# Altium integrated library CM5_library.IntLib: 236 symbols (part 1 of 5)
Pins are listed as number, name and electrical type; pins without a type are passive.

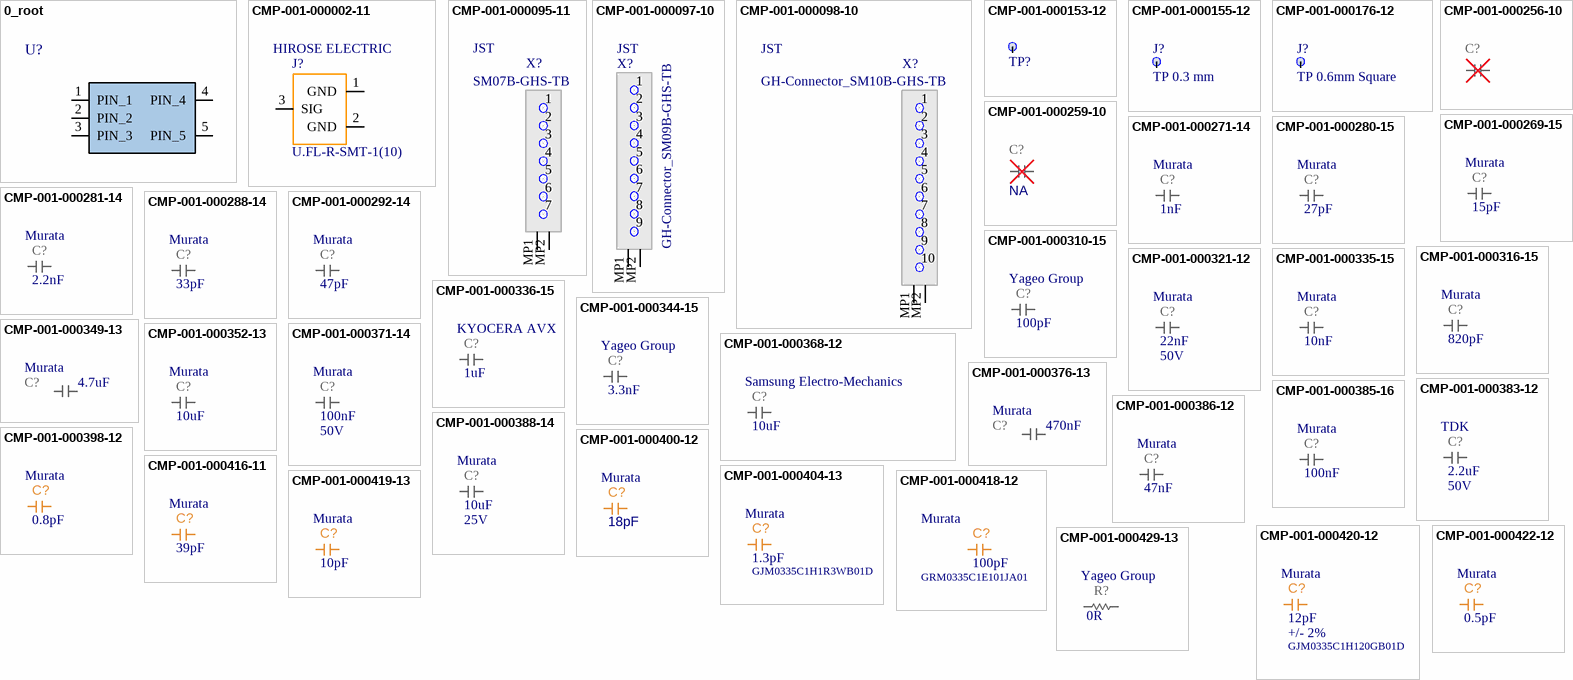
[diagram p0: symbols 0_root to CMP-001-000429-13]

## 0_root
designator U?
root component; HasBeenBuilt: False; HasBeenChecked: None; ComponentLink1Description: 1_Datasheet; ComponentLink2Description: 2_Product page; ComponentLink3Description: 3_X-information; Creation date: 2021xxxx; ComponentLink4Description: 4_X-information; ComponentLink4URL: *
pins: 1 PIN_1, 2 PIN_2 "Connect to GND or to DC-feed", 3 PIN_3, 4 PIN_4, 5 PIN_5

## CMP-001-000002-11
designator J?, comment Part Number: U.FL-R-SMT-1(10)  Manufacturer: HIROSE ELECTRIC  (hidden comment: U_FL_V3)
U.FL Connector, v3, updated pads smaller by Sercom.; Manufacturer: Hirose; Sort order: 111; HasBeenBuilt: True; ClassName: BIG; ComponentLink1Description: 1_Datasheet; ComponentLink1URL: https://www.hirose.com/product/document?clcode=CL0331-0472-2-80&productname=U.FL-R-SMT-1(80)&series=U.FL&documenttype=2DDrawing&lang=en&documentid=0001257922; ComponentLink2Description: 2_Product page; ComponentLink3Description: 3_X-information; ComponentLink4Description: 4_X-information; Creation date: 20200101; System: Connector; ECCN: EAR99; Design Item ID: U_FL_V3; Source: Conn_UN1Q.SchLib; RoHS: RoHS 3; Manufacturer Part Number: U.FL-R-SMT-1(10); Component Type: RF Connector
footprint U_FL_HRS_V3 (SMD, 3-Leads, Body 2.6x2.6mm)
pins: 1 GND (power), 2 GND (power), 3 SIG

## CMP-001-000095-11
designator X?, comment Part Number: SM07B-GHS-TB  Manufacturer: JST  (hidden comment: GH-Connector_SM07B-GHS-TB)
JST GH Connector, Header, 7 pin, Horizontal, Pitch 1.25 mm; Manufacturer Part Number: SM07B-GHS-TB(LF)(SN); HasBeenBuilt: False; Sort order: 111; ClassName: BIG; ComponentLink1Description: 1_Datasheet; ComponentLink1URL: https://www.jst-mfg.com/product/pdf/eng/eGH.pdf; ComponentLink2Description: 2_Product page; ComponentLink3Description: 3_X-information; ComponentLink4Description: 4_X-information; Creation date: 20210708; Dimensions WxLxH: 4.05x12.0x4.25; Operating temperature range: -25 ... +85 °C; System: Connector; Design Item ID: GH-Connector_SM07B-GHS-TB; Source: Conn_UN1Q.SchLib; Component Type: Connector
footprint SM07B-GHS-TB (JST GH Connector, 7 pin, Horzontal, Pitch 1.25 mm)
pins: 1, 2, 3, 4, 5, 6, 7, MP1, MP2

## CMP-001-000097-10
designator X?, comment GH-Connector_SM09B-GHS-TB  Manufacturer: JST
JST GH Connector, Header, 9 pin, Horizontal, Pitch 1.25 mm; Manufacturer Part Number: SM09B-GHS-TB(LF)(SN); Sort order: 111; HasBeenBuilt: False; Part Number: SM09B-GHS-TB; ClassName: BIG; Operating temperature range: -25 ... +85 °C; ComponentLink1Description: 1_Datasheet; ComponentLink1URL: https://www.jst-mfg.com/product/pdf/eng/eGH.pdf; ComponentLink2Description: 2_Product page; ComponentLink3Description: 3_X-information; ComponentLink4Description: 4_X-information; Creation date: 20210708; Dimensions WxLxH: 4.05x14.5x4.25; System: Connector; Design Item ID: GH-Connector_SM09B-GHS-TB; Source: Conn_UN1Q.SchLib; Component Type: Connector
footprint SM09B-GHS-TB (JST GH Connector, 9 pin, Horizontal, Pitch 1.25 mm)
pins: 1, 2, 3, 4, 5, 6, 7, 8, 9, MP1, MP2

## CMP-001-000098-10
designator X?, comment GH-Connector_SM10B-GHS-TB  Manufacturer: JST
JST GH Connector, Header, 10 pin, Horizontal, Pitch 1.25 mm; Manufacturer Part Number: SM10B-GHS-TB(LF)(SN); Sort order: 111; HasBeenBuilt: CarrierBoard_01; Part Number: SM10B-GHS-TB; ClassName: BIG; Operating temperature range: -25 ... +85 °C; ComponentLink1Description: 1_Datasheet; ComponentLink1URL: https://www.jst-mfg.com/product/pdf/eng/eGH.pdf; Creation date: 20210708; Dimensions WxLxH: 4.05x15.75x4.25; System: Connector; Source: Conn_UN1Q.SchLib; Design Item ID: GH-Connector_SM10B-GHS-TB; ComponentLink3Description: 3_X-information; ComponentLink4Description: 4_X-information; ComponentLink2Description: 2_Product page; Component Type: Connector
footprint SM10B-GHS-TB (JST GH Connector, 10 pin, Horizontal, Pitch 1.25 mm)
pins: 1, 2, 3, 4, 5, 6, 7, 8, 9, 10, MP1, MP2

## CMP-001-000153-12
designator TP?, comment Testpoint, Surface, 1.0mm  (value not drawn)  (no BOM)
Testpoint 1.0mm; Part Number: TP 1mm; Sort order: -; HasBeenBuilt: -; ClassName: SMALL; ComponentLink1Description: 1_Datasheet; ComponentLink2Description: 2_Product page; ComponentLink3Description: 3_X-information; ComponentLink4Description: 4_X-information; Creation date: 20200101; System: Test Point; Design Item ID: TP_1mm; Source: Conn_UN1Q.SchLib; Component Type: Test Point
footprint TP_1mm_UN1Q (Test Point, Circular, 1.0 mm)
pins: 1 TP

## CMP-001-000155-12
designator J?, comment Part Number: TP 0.3 mm  (hidden comment: TP_03mm)  (no BOM)
Testpoint 0.3mm; HasBeenBuilt: -; ComponentLink3Description: 3_X-information; Creation date: 20220808; System: Test Point; Sort order: -; ClassName: SMALL; Source: Conn_UN1Q.SchLib; ComponentLink1Description: 1_Datasheet; ComponentLink2Description: 2_Product page; Design Item ID: TP_03mm; ComponentLink4Description: 4_X-information; Component Type: Test Point
footprint TP_03mm_UN1Q (Test Point 0.3 mm)
pins: 1 TP

## CMP-001-000176-12
designator J?, comment Part Number: TP 0.6mm Square  (hidden comment: TP_06mm_Square)  (no BOM)
Testpoint, Square, 0.6 mm; ClassName: SMALL; Sort order: -; Design Item ID: TP_06mm_Square; ComponentLink4Description: 4_X-information; ComponentLink1Description: 1_Datasheet; Creation date: 20200101; ComponentLink2Description: 2_Product page; HasBeenBuilt: -; Source: Conn_UN1Q.SchLib; ComponentLink3Description: 3_X-information; System: Test Point; Component Type: Test Point
footprint TP_06mm_Square_UN1Q (Test Point, Square, 0.6mm)
pins: 1 TP

## CMP-001-000256-10
designator C?, comment CAP_0201_NA  (value not drawn)
Not Assembled - CAP; Sort order: 999; HasBeenBuilt: TBD; Value: NA; System: RLC; Package: 0201; ComponentLink1Description: 1_Datasheet; ComponentLink2Description: 2_Product page; Creation date: 20190101; ComponentLink3Description: 3_X-information; ComponentLink4Description: 4_X-information; ClassName: SMALL; Source: RLC_UN1Q.SchLib; Component Type: Capacitor
footprint CAP_0201_UN1Q (Chip Capacitor 0201)
pins: 1, 2

## CMP-001-000259-10
designator C?, comment value NA  (hidden comment: CAP_0603_NA)
Not Assembled - CAP; Sort order: 999; HasBeenBuilt: TBD; System: RLC; Package: 0603; ComponentLink1Description: 1_Datasheet; ComponentLink2Description: 2_Product page; ComponentLink3Description: 3_X-information; ComponentLink4Description: 4_X-information; Creation date: 20190101; Source: RLC_UN1Q.SchLib; Component Type: Capacitor
footprint CAP_0603_UN1Q (Chip Capacitor 0603)
pins: 1, 2

## CMP-001-000269-15
designator C?, comment value 15pF  Manufacturer: Murata  (hidden comment: CAP_0201_15p)
CAP; Part Number: GRM0335C1H150JA01D; Temperature characteristics: C0G; Voltage: 50V; Tolerance: +/-5%; Sort order: 302; HasBeenBuilt: TBD; Alternative component: Allowed; System: RLC; Package: 0201; ComponentLink1Description: 1_Datasheet; ComponentLink2Description: 2_Product page; ComponentLink3Description: 3_X-information; ComponentLink4Description: 4_X-information; Creation date: 20190101; ClassName: SMALL; Source: RLC_UN1Q.SchLib; Manufacturer Part Number: GRM0335C1H150JA01D; Component Type: Capacitor
footprint CAP_0201_UN1Q (Chip Capacitor 0201)
pins: 1, 2

## CMP-001-000271-14
designator C?, comment value 1nF  Manufacturer: Murata  (hidden comment: CAP_0201_1n0)
CAP; Part Number: GRM033R71E102KA01D; Manufacturer: Samsung; Temperature characteristics: X7R; Tolerance: +/-10%; Sort order: 302; HasBeenBuilt: TBD; Alternative component: Allowed; Voltage: 25V; System: RLC; Package: 0201; ComponentLink1Description: 1_Datasheet; ComponentLink2Description: 2_Product page; ComponentLink3Description: 3_X-information; ComponentLink4Description: 4_X-information; Creation date: 20190101; ClassName: SMALL; Manufacturer Part Number: GRM033R71E102KA01D; Component Type: Capacitor
footprint CAP_0201_UN1Q (Chip Capacitor 0201)
pins: 1, 2

## CMP-001-000280-15
designator C?, comment value 27pF  Manufacturer: Murata  (hidden comment: CAP_0201_27p)
CAP; Part Number: GRM0335C1H270JA01D; Manufacturer: TDK; Temperature characteristics: C0G; Tolerance: +/-5%; Sort order: 302; HasBeenBuilt: TBD; Alternative component: Allowed; Voltage: 50V; System: RLC; Package: 0201; ComponentLink1Description: 1_Datasheet; ComponentLink2Description: 2_Product page; ComponentLink3Description: 3_X-information; ComponentLink4Description: 4_X-information; Creation date: 20190101; ClassName: SMALL; Source: RLC_UN1Q.SchLib; Manufacturer Part Number: GRM0335C1H270JA01D; Component Type: Capacitor
footprint CAP_0201_UN1Q (Chip Capacitor 0201)
pins: 1, 2

## CMP-001-000281-14
designator C?, comment value 2.2nF  Manufacturer: Murata  (hidden comment: CAP_0201_2n2)
CAP; Part Number: GRM033R71E222KA12J; Temperature characteristics: X7R; Tolerance: +/-10%; Sort order: 302; HasBeenBuilt: TBD; Alternative component: Allowed; Voltage: 25V; System: RLC; Package: 0201; ComponentLink1Description: 1_Datasheet; ComponentLink2Description: 2_Product page; ComponentLink3Description: 3_X-information; ComponentLink4Description: 4_X-information; Creation date: 20222504; ClassName: SMALL; Source: RLC_UN1Q.SchLib; Manufacturer Part Number: GRM033R71E222KA12J; Component Type: Capacitor
footprint CAP_0201_UN1Q (Chip Capacitor 0201)
pins: 1, 2

## CMP-001-000288-14
designator C?, comment value 33pF  Manufacturer: Murata  (hidden comment: CAP_0201_33p)
CAP; Part Number: GRT0335C1E330JA02D; System: RLC; Voltage: 25V; Temperature characteristics: C0G; Tolerance: +/-5%; Alternative component: Allowed; Sort order: 302; ComponentLink1Description: 1_Datasheet; ComponentLink2Description: 2_Product page; Package: 0201; Creation date: 20190101; ComponentLink4Description: 4_X-information; ComponentLink3Description: 3_X-information; ClassName: SMALL; Manufacturer Part Number: GRT0335C1E330JA02D; Component Type: Capacitor
footprint CAP_0201_UN1Q (Chip Capacitor 0201)
pins: 1, 2

## CMP-001-000292-14
designator C?, comment value 47pF  Manufacturer: Murata  (hidden comment: CAP_0201_47p)
CAP; Part Number: GRM0335C1H470JA01D; Manufacturer: Samsung; Temperature characteristics: C0G; Voltage: 50V; Tolerance: +/-5%; Sort order: 302; HasBeenBuilt: TBD; Alternative component: Allowed; System: RLC; Package: 0201; ClassName: SMALL; ComponentLink1Description: 1_Datasheet; ComponentLink2Description: 2_Product page; ComponentLink3Description: 3_X-information; ComponentLink4Description: 4_X-information; Creation date: 20190101; Source: RLC_UN1Q.SchLib; Manufacturer Part Number: GRM0335C1H470JA01D; Component Type: Capacitor
footprint CAP_0201_UN1Q (Chip Capacitor 0201)
pins: 1, 2

## CMP-001-000310-15
designator C?, comment value 100pF  Manufacturer: Yageo Group  (hidden comment: CAP_0201_100p)
CAP; Part Number: CC0201KRX7R8BB101; Manufacturer: YAGEO; Temperature characteristics: X7R; Voltage: 25V; Tolerance: +/-10%; Sort order: 302; HasBeenBuilt: TBD; Alternative component: Allowed; System: RLC; Package: 0201; ClassName: SMALL; ComponentLink1Description: 1_Datasheet; ComponentLink2Description: 2_Product page; ComponentLink3Description: 3_X-information; ComponentLink4Description: 4_X-information; Creation date: 20190101; Manufacturer Part Number: CC0201KRX7R8BB101; Component Type: Capacitor
footprint CAP_0201_UN1Q (Chip Capacitor 0201)
pins: 1, 2

## CMP-001-000316-15
designator C?, comment value 820pF  Manufacturer: Murata  (hidden comment: CAP_0201_820p)
CAP; Part Number: GRM0335C1H821JE01D; Temperature characteristics: C0G; Tolerance: +/-5%; Sort order: 302; HasBeenBuilt: TBD; Alternative component: Allowed; Voltage: 50V; System: RLC; Package: 0201; ComponentLink1Description: 1_Datasheet; ComponentLink2Description: 2_Product page; ComponentLink3Description: 3_X-information; ComponentLink4Description: 4_X-information; Creation date: 20190101; ClassName: SMALL; Source: RLC_UN1Q.SchLib; Manufacturer Part Number: GRM0335C1H821JE01D; Component Type: Capacitor
footprint CAP_0201_UN1Q (Chip Capacitor 0201)
pins: 1, 2

## CMP-001-000321-12
designator C?, comment value 22nF  Voltage: 50V  Manufacturer: Murata  (hidden comment: CAP_0402_22nF)
CAP; Part Number: GCM155R71H223KA55D; Temperature characteristics: X7R; Sort order: 304; System: RLC; HasBeenBuilt: False; Tolerance: +/-10%; Alternative component: Allowed; ECCN: EAR99; Creation date: 20210916; ComponentLink1Description: 1_Datasheet; Source: RLC_UN1Q.SchLib; ComponentLink4Description: 4_X-information; ComponentLink2Description: 2_Product page; RoHS: RoHS3; Package: 0402; ComponentLink3Description: 3_X-information; Operating temperature range: -55 ... +125°C; Manufacturer Part Number: GCM155R71H223KA55D; Component Type: Capacitor
footprint CAP_0402_UN1Q (Chip Capacitor 0402)
pins: 1, 2

## CMP-001-000335-15
designator C?, comment value 10nF  Manufacturer: Murata  (hidden comment: CAP_0201_10n_16V)
CAP; Part Number: GRM033R71C103KE14D; Temperature characteristics: X7R; Tolerance: +/-10%; Sort order: 302; HasBeenBuilt: TBD; Alternative component: Allowed; Voltage: 16V; System: RLC; Package: 0201; ClassName: SMALL; ComponentLink1Description: 1_Datasheet; ComponentLink2Description: 2_Product page; ComponentLink3Description: 3_X-information; ComponentLink4Description: 4_X-information; Creation date: 20190101; Source: RLC_UN1Q.SchLib; Manufacturer Part Number: GRM033R71C103KE14D; Component Type: Capacitor
footprint CAP_0201_UN1Q (Chip Capacitor 0201)
pins: 1, 2

## CMP-001-000336-15
designator C?, comment value 1uF  Manufacturer: KYOCERA AVX  (hidden comment: CAP_0201_1uF_X6S)
CAP; Part Number: KGM03CS61A105MH; Manufacturer: Kyocera; Temperature characteristics: X6S; Voltage: 10V; Tolerance: +/-20%; Sort order: 302; HasBeenBuilt: False; Alternative component: Allowed; System: RLC; Package: 0201; Operating temperature range: -55C to +105C; ComponentLink1Description: 1_Datasheet; ComponentLink2Description: 2_Product page; ComponentLink3Description: 3_X-information; ComponentLink4Description: 4_X-information; Creation date: 20190101; ClassName: SMALL; Source: RLC_UN1Q.SchLib; Manufacturer Part Number: KGM03CS61A105MH; Component Type: Capacitor
footprint CAP_0201_UN1Q (Chip Capacitor 0201)
pins: 1, 2

## CMP-001-000344-15
designator C?, comment value 3.3nF  Manufacturer: Yageo Group  (hidden comment: CAP_0402_3n3_X7R)
CAP; Part Number: AC0402KRX7R9BB333; Manufacturer: YAGEO; Temperature characteristics: X7R; Voltage: 50V; Tolerance: +/-10%; Sort order: 304; HasBeenBuilt: TBD; Alternative component: Allowed; System: RLC; Package: 0402; ComponentLink1Description: 1_Datasheet; ComponentLink2Description: 2_Product page; ComponentLink3Description: 3_X-information; ComponentLink4Description: 4_X-information; Creation date: 20220228; Manufacturer Part Number: AC0402KRX7R9BB333; Component Type: Capacitor
footprint CAP_0402_UN1Q (Chip Capacitor 0402)
pins: 1, 2

## CMP-001-000349-13
designator C?, comment value 4.7uF  Manufacturer: Murata  (hidden comment: CAP_0402_4u7_X7T)
CAP; Part Number: GRM155D70J475ME15J; Sort order: 304; HasBeenBuilt: TBD; Alternative component: Allowed; System: RLC; Voltage: 6.3V; Temperature characteristics: X7T; Tolerance: +/-20%; ComponentLink2Description: 2_Product page; Package: 0402; Creation date: 20190101; ComponentLink1Description: 1_Datasheet; ComponentLink3Description: 3_X-information; ComponentLink4Description: 4_X-information; Manufacturer Part Number: GRM155D70J475ME15J; Component Type: Capacitor
footprint CAP_0402_H09W07_UN1Q (Chip Capacitor 0402 BIG)
pins: 1, 2

## CMP-001-000352-13
designator C?, comment value 10uF  Manufacturer: Murata  (hidden comment: CAP_0603_10u_X6S)
CAP; Part Number: GRM188C81C106MA73D; Temperature characteristics: X6S; Tolerance: +/-20%; Sort order: 306; HasBeenBuilt: TBD; Voltage: 16V; System: RLC; Package: 0603; ComponentLink1Description: 1_Datasheet; ComponentLink2Description: 2_Product page; ComponentLink3Description: 3_X-information; ComponentLink4Description: 4_X-information; Creation date: 20210914; Manufacturer Part Number: GRM188C81C106MA73D; Component Type: Capacitor
footprint CAP_0603_UN1Q (Chip Capacitor 0603)
pins: 1, 2

## CMP-001-000368-12
designator C?, comment value 10uF  Manufacturer: Samsung Electro-Mechanics  (hidden comment: CAP_1206_10uF_X7R)
CAP; Part Number: CL31B106KBHNNNE; Manufacturer: Samsung; Temperature characteristics: X7R; Tolerance: +/-10%; Sort order: 308; HasBeenBuilt: Saluki3; Alternative component: Allowed; Voltage: 50V; System: RLC; Package: 1206; Operating temperature range: -55 ... +125°C; ComponentLink1Description: 1_Datasheet; ComponentLink2Description: 2_Product page; ComponentLink3Description: 3_X-information; ComponentLink4Description: 4_X-information; Creation date: 20220729; Source: RLC_UN1Q.SchLib; ECCN: EAR99; RoHS: ROHS3; Manufacturer Part Number: CL31B106KBHNNNE; Component Type: Capacitor
footprint CAP_1206_UN1Q (Chip Capacitor 1206)
pins: 1, 2

## CMP-001-000371-14
designator C?, comment value 100nF  Voltage: 50V  Manufacturer: Murata  (hidden comment: CAP_0402_100nF_50V)
CAP; Part Number: GRM155R71H104KE14D; Temperature characteristics: X7R; Tolerance: +/-10%; Sort order: 304; HasBeenBuilt: TBD; Alternative component: Allowed; System: RLC; Package: 0402; ComponentLink1Description: 1_Datasheet; ComponentLink2Description: 2_Product page; ComponentLink3Description: 3_X-information; ComponentLink4Description: 4_X-information; Creation date: 20190101; Manufacturer Part Number: GRM155R71H104KE14D; Component Type: Capacitor
footprint CAP_0402_UN1Q (Chip Capacitor 0402)
pins: 1, 2

## CMP-001-000376-13
designator C?, comment value 470nF  Manufacturer: Murata  (hidden comment: CAP_0402_470nF_X7R)
CAP; Part Number: GRM155R71A474ME01D; Voltage: 10V; Tolerance: +/-20%; System: RLC; Temperature characteristics: X7R; HasBeenBuilt: TBD; Sort order: 304; Alternative component: Allowed; ComponentLink4Description: 4_X-information; Source: RLC_UN1Q.SchLib; ComponentLink3Description: 3_X-information; ComponentLink2Description: 2_Product page; Creation date: 20211026; Operating temperature range: -55 ... +125°C; ComponentLink1Description: 1_Datasheet; ECCN: EAR99; Package: 0402; RoHS: RoHS3; Manufacturer Part Number: GRM155R71A474ME01D; Component Type: Capacitor
footprint CAP_0402_UN1Q (Chip Capacitor 0402)
pins: 1, 2

## CMP-001-000383-12
designator C?, comment value 2.2uF  Voltage: 50V  Manufacturer: TDK  (hidden comment: CAP_0805_2u2_50V_X7R)
CAP; Part Number: C2012X7R1H225K125AC; Tolerance: +/-10%; Sort order: 308; HasBeenBuilt: Saluki3; Alternative component: Allowed; Temperature characteristics: X7R; System: RLC; Package: 0805; Operating temperature range: -55 ... +125°C; ComponentLink1Description: 1_Datasheet; ComponentLink2Description: 2_Product page; ComponentLink3Description: 3_X-information; ComponentLink4Description: 4_X-information; Creation date: 20220803; ECCN: EAR99; Source: RLC_UN1Q.SchLib; RoHS: ROHS3; Manufacturer Part Number: C2012X7R1H225K125AC; Component Type: Capacitor
footprint CAP_0805_UN1Q (Chip Capacitor 0805)
pins: 1, 2

## CMP-001-000385-16
designator C?, comment value 100nF  Manufacturer: Murata  (hidden comment: CAP_0201_100n_X7S_16V)
CAP; Part Number: GRM033C71C104KE14D; Temperature characteristics: X7S; Tolerance: +/-10%; Sort order: 302; HasBeenBuilt: TBD; Alternative component: Allowed; Voltage: 16V; System: RLC; Package: 0201; ClassName: SMALL; ComponentLink1Description: 1_Datasheet; ComponentLink2Description: 2_Product page; ComponentLink3Description: 3_X-information; ComponentLink4Description: 4_X-information; Creation date: 20190101; Source: RLC_UN1Q.SchLib; Manufacturer Part Number: GRM033C71C104KE14D; Component Type: Capacitor
footprint CAP_0201_UN1Q (Chip Capacitor 0201)
pins: 1, 2

## CMP-001-000386-12
designator C?, comment value 47nF  Manufacturer: Murata  (hidden comment: CAP_0402_47nF_X7R_16V)
CAP; Part Number: GCM155R71C473KA37J; Temperature characteristics: X7R; Tolerance: +/-10%; Sort order: 304; HasBeenBuilt: TBD; Alternative component: Allowed; Voltage: 16V; System: RLC; Package: 0402; Operating temperature range: -55 ... +125°C; ComponentLink1Description: 1_Datasheet; ComponentLink2Description: 2_Product page; ComponentLink3Description: 3_X-information; ComponentLink4Description: 4_X-information; Creation date: 20211026; Source: RLC_UN1Q.SchLib; ECCN: EAR99; RoHS: RoHS3; Manufacturer Part Number: GCM155R71C473KA37J; Component Type: Capacitor
footprint CAP_0402_UN1Q (Chip Capacitor 0402)
pins: 1, 2

## CMP-001-000388-14
designator C?, comment value 10uF  Voltage: 25V  Manufacturer: Murata  (hidden comment: CAP_0805_10uF_25V_X7S)
CAP; Part Number: GRM21BC71E106ME11L; Temperature characteristics: X7S; Tolerance: +/-20%; Sort order: 308; HasBeenBuilt: TBD; Alternative component: Allowed; System: RLC; Package: 0805; Operating temperature range: -55 ... +125°C; ComponentLink1Description: 1_Datasheet; ComponentLink2Description: 2_Product page; ComponentLink3Description: 3_X-information; ComponentLink4Description: 4_X-information; Creation date: 20190101; RoHS: RoHS3; Source: RLC_UN1Q.SchLib; ECCN: EAR99; Manufacturer Part Number: GRM21BC71E106ME11L; Component Type: Capacitor
footprint CAP_0805_UN1Q (Chip Capacitor 0805)
pins: 1, 2

## CMP-001-000398-12
designator C?, comment value 0.8pF  Manufacturer: Murata  (hidden comment: CAP_0201_0p8_RF_MATCHING)
CAP_RF_MATCHING; Part Number: GRM0335C1HR80WA01; Manufacturer Part Number: GRM0335C1HR80WA01J; Temperature characteristics: C0G; Voltage: 50V; Tolerance: +/-0.05pF; Remark: RF matching, use part number; Sort order: 202; HasBeenBuilt: TBD; System: RLC; Package: 0201; Operating temperature range: -55 ... +125C; ClassName: SMALL; ComponentLink1Description: 1_Datasheet; ComponentLink2Description: 2_Product page; Creation date: 20200101; ComponentLink3Description: 3_X-information; ComponentLink4Description: 4_X-information; Source: RLC_UN1Q.SchLib; Component Type: Capacitor
footprint CAP_0201_UN1Q (Chip Capacitor 0201)
pins: 1, 2

## CMP-001-000400-12
designator C?, comment value 18pF  Manufacturer: Murata  (hidden comment: CAP_0201_18p_RF_MATCHING)
CAP_RF_MATCHING; Part Number: GJM0335C1E180JB01; Manufacturer Part Number: GJM0335C1E180JB01D; Voltage: 25V; Tolerance: +/-2%; Temperature characteristics: C0G; Remark: RF matching, use part number; Sort order: 202; HasBeenBuilt: TBD; System: RLC; Package: 0201; ClassName: SMALL; ComponentLink1Description: 1_Datasheet; ComponentLink2Description: 2_Product page; ComponentLink3Description: 3_X-information; ComponentLink4Description: 4_X-information; Creation date: 20200101; Source: RLC_UN1Q.SchLib; Component Type: Capacitor
footprint CAP_0201_UN1Q (Chip Capacitor 0201)
pins: 1, 2

## CMP-001-000404-13
designator C?, comment value 1.3pF  Part Number: GJM0335C1H1R3WB01D  Manufacturer: Murata  (hidden comment: CAP_0201_1p3_RF_MATCHING)
CAP_RF_MATCHING; System: RLC; Remark: RF matching, use part number; Tolerance: +/-0.05pF; HasBeenBuilt: TBD; Sort order: 202; Temperature characteristics: C0G; Voltage: 50V; Operating temperature range: -55 ... +125C; ComponentLink3Description: 3_X-information; ComponentLink4Description: 4_X-information; ComponentLink1Description: 1_Datasheet; ComponentLink2Description: 2_Product page; ClassName: SMALL; Package: 0201; Creation date: 20200101; Manufacturer Part Number: GJM0335C1H1R3WB01D; Component Type: Capacitor
footprint CAP_0201_UN1Q (Chip Capacitor 0201)
pins: 1, 2

## CMP-001-000416-11
designator C?, comment value 39pF  Manufacturer: Murata  (hidden comment: CAP_0402_39p_RF_MATCHING)
CAP_RF_MATCHING; Part Number: GJM1555C1H390FB0#; System: RLC; Tolerance: +/-1%; Temperature characteristics: C0G; HasBeenBuilt: TBD; Sort order: 202; Voltage: 50V; Remark: RF matching, use part number; ComponentLink1Description: 1_Datasheet; Package: 0402; ClassName: SMALL; ComponentLink4Description: 4_X-information; ComponentLink3Description: 3_X-information; ComponentLink2Description: 2_Product page; Creation date: 20231024; ComponentLink1URL: https://www.murata.com/en-us/products/productdetail?partno=GJM1555C1H390FB01%23; Source: RLC_UN1Q.SchLib; Manufacturer Part Number: GJM1555C1H390FB0#; Component Type: Capacitor
footprint CAP_0402_UN1Q (Chip Capacitor 0402)
pins: 1, 2

## CMP-001-000418-12
designator C?, comment value 100pF  Part Number: GRM0335C1E101JA01  Manufacturer: Murata  (hidden comment: CAP_0201_100p_RF_MATCHING)
CAP_RF_MATCHING; Manufacturer Part Number: GRM0335C1E101JA01D; Tolerance: +/-5%; Remark: RF matching, use part number; Temperature characteristics: C0G; HasBeenBuilt: TBD; System: RLC; Sort order: 202; Voltage: 25V; Package: 0201; ComponentLink2Description: 2_Product page; ComponentLink3Description: 3_X-information; Creation date: 20200101; Source: RLC_UN1Q.SchLib; ComponentLink1Description: 1_Datasheet; ComponentLink4Description: 4_X-information; ClassName: SMALL; Component Type: Capacitor
footprint CAP_0201_UN1Q (Chip Capacitor 0201)
pins: 1, 2

## CMP-001-000419-13
designator C?, comment value 10pF  Manufacturer: Murata  (hidden comment: CAP_0201_10pF_RF_MATCHING)
CAP_RF_MATCHING; Part Number: GJM0335C1E100GB01D; Temperature characteristics: C0G; Tolerance: +/- 2%; Remark: RF matching, use part number; Sort order: 202; HasBeenBuilt: TBD; Voltage: 25V; System: RLC; Package: 0201; Operating temperature range: -55 ... +125C; ComponentLink1Description: 1_Datasheet; ComponentLink2Description: 2_Product page; ComponentLink3Description: 3_X-information; ComponentLink4Description: 4_X-information; Creation date: 20200101; ClassName: SMALL; Manufacturer Part Number: GJM0335C1E100GB01D; Component Type: Capacitor
footprint CAP_0201_UN1Q (Chip Capacitor 0201)
pins: 1, 2

## CMP-001-000420-12
designator C?, comment value 12pF  Tolerance: +/- 2%  Part Number: GJM0335C1H120GB01D  Manufacturer: Murata  (hidden comment: CAP_0201_12pF_RF_MATCHING)
CAP_RF_MATCHING; Temperature characteristics: C0G; Sort order: 202; System: RLC; HasBeenBuilt: TBD; Voltage: 50V; Remark: RF matching, use part number; ComponentLink4Description: 4_X-information; ClassName: SMALL; Package: 0201; ComponentLink2Description: 2_Product page; ComponentLink3Description: 3_X-information; ComponentLink1Description: 1_Datasheet; Operating temperature range: -55 ... +125C; Creation date: 20211123; Manufacturer Part Number: GJM0335C1H120GB01D; Component Type: Capacitor
footprint CAP_0201_UN1Q (Chip Capacitor 0201)
pins: 1, 2

## CMP-001-000422-12
designator C?, comment value 0.5pF  Manufacturer: Murata  (hidden comment: CAP_0201_0p5_GJM_RF_MATCHING)
CAP_RF_MATCHING; Part Number: GJM0335C1ER50WB01; Manufacturer Part Number: GJM0335C1ER50WB01D; Sort order: 202; Tolerance: +/-0.05pF; Temperature characteristics: C0G; System: RLC; HasBeenBuilt: False; Voltage: 25V; Remark: RF matching, use part number; ComponentLink1URL: https://www.murata.com/en-eu/products/productdetail?partno=GJM0335C1ER50WB01%23; Operating temperature range: -55 ... +125C; ComponentLink4Description: 4_X-information; Creation date: 20220131; Source: RLC_UN1Q.SchLib; Package: 0201; ComponentLink2Description: 2_Product page; ComponentLink3Description: 3_X-information; ComponentLink1Description: 1_Datasheet; ClassName: SMALL; Component Type: Capacitor
footprint CAP_0201_UN1Q (Chip Capacitor 0201)
pins: 1, 2

## CMP-001-000429-13
designator R?, comment value 0R  Manufacturer: Yageo Group  (hidden comment: RES_0201_0R)
RES; Part Number: RC0201JR-070RL; Manufacturer: YAGEO; Tolerance: 5%; Sort order: 322; HasBeenBuilt: TBD; Alternative component: Allowed; System: RLC; Power Rating: 1/20W; Package: 0201; ComponentLink1Description: 1_Datasheet; ComponentLink2Description: 2_Product page; ComponentLink3Description: 3_X-information; ComponentLink4Description: 4_X-information; Creation date: 20190101; ClassName: SMALL; Source: RLC_UN1Q.SchLib; Manufacturer Part Number: RC0201JR-070RL; Component Type: Resistor
footprint RES_0201_UN1Q (Chip Resistor, 0.6x0.3mm)
pins: 1, 2

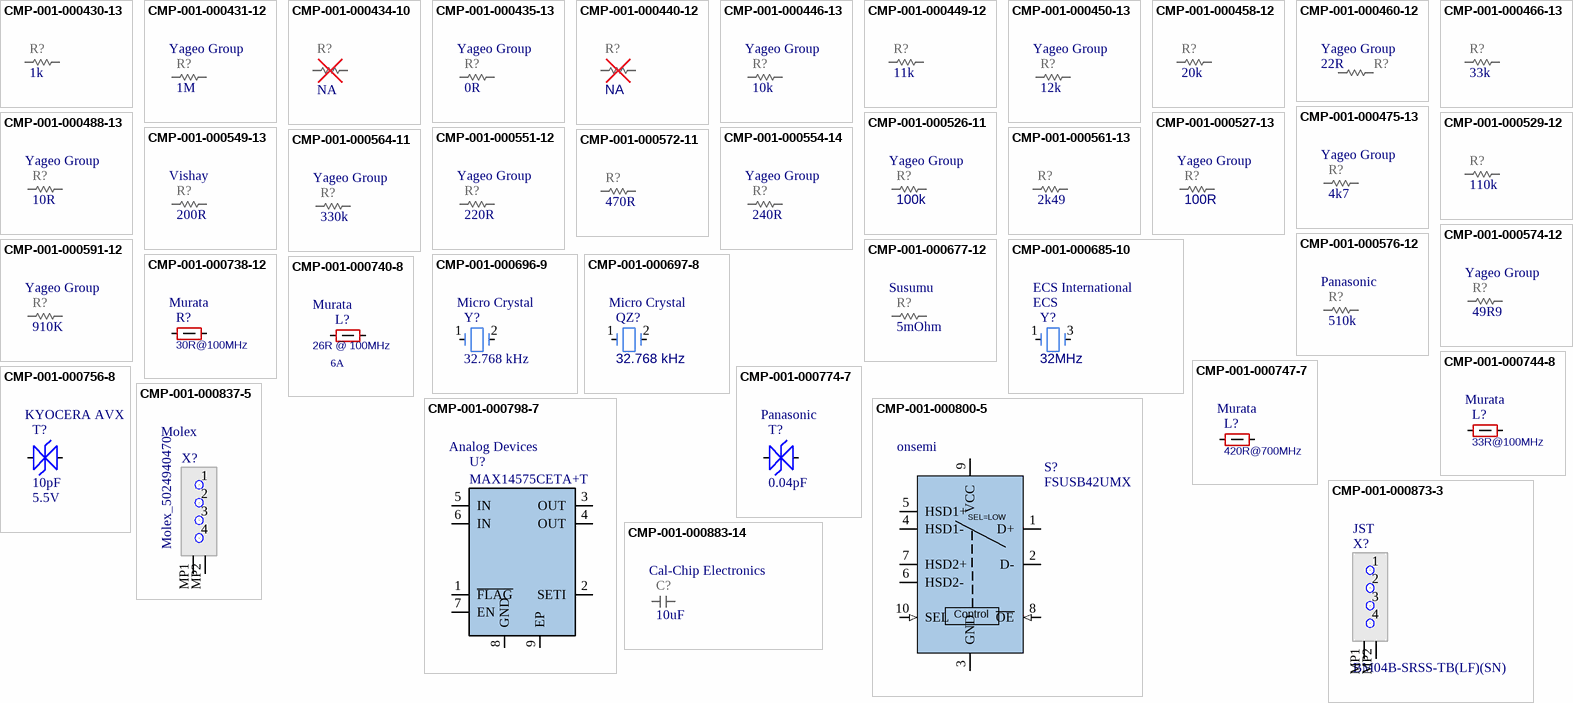
[diagram p1: symbols CMP-001-000430-13 to CMP-001-000883-14]

## CMP-001-000430-13
designator R?, comment value 1k  (hidden comment: RES_0201_1k)
RES; Part Number: RC0201FR-071KL; Manufacturer: YAGEO; Tolerance: 1%; Power Rating: 1/20W; Sort order: 322; HasBeenBuilt: TBD; Alternative component: Allowed; System: RLC; Package: 0201; ComponentLink1Description: 1_Datasheet; ComponentLink2Description: 2_Product page; ComponentLink3Description: 3_X-information; ComponentLink4Description: 4_X-information; Creation date: 20190101; ClassName: SMALL; Source: RLC_UN1Q.SchLib; Component Type: Resistor
footprint RES_0201_UN1Q (Chip Resistor, 0.6x0.3mm)
pins: 1, 2

## CMP-001-000431-12
designator R?, comment value 1M  Manufacturer: Yageo Group  (hidden comment: RES_0201_1M)
RES; Manufacturer: Yageo; Part Number: RC0201FR-071ML; Sort order: 322; System: RLC; Tolerance: 1%; HasBeenBuilt: TBD; Alternative component: Allowed; Power Rating: 1/20W; ComponentLink1Description: 1_Datasheet; ClassName: SMALL; ComponentLink2Description: 2_Product page; Creation date: 20190101; Package: 0201; ComponentLink4Description: 4_X-information; Source: RLC_UN1Q.SchLib; ComponentLink3Description: 3_X-information; Manufacturer Part Number: RC0201FR-071ML; Component Type: Resistor
footprint RES_0201_UN1Q (Chip Resistor, 0.6x0.3mm)
pins: 1, 2

## CMP-001-000434-10
designator R?, comment value NA  (hidden comment: RES_0201_NA)
Not Assembled - RES; Sort order: 999; HasBeenBuilt: TBD; System: RLC; Package: 0201; ComponentLink1Description: 1_Datasheet; ComponentLink2Description: 2_Product page; ComponentLink3Description: 3_X-information; ComponentLink4Description: 4_X-information; Creation date: 20190101; ClassName: SMALL; Source: RLC_UN1Q.SchLib; Component Type: Resistor
footprint RES_0201_UN1Q (Chip Resistor, 0.6x0.3mm)
pins: 1, 2

## CMP-001-000435-13
designator R?, comment value 0R  Manufacturer: Yageo Group  (hidden comment: RES_0402_0R)
RES; Manufacturer: Yageo; Part Number: RC0402FR-070RL; Power Rating: 1/16W; HasBeenBuilt: Saluki3; Tolerance: 1%; Alternative component: Allowed; Sort order: 324; System: RLC; Package: 0402; ComponentLink4Description: 4_X-information; ECCN: EAR99; ComponentLink3Description: 3_X-information; Creation date: 20190101; ComponentLink1Description: 1_Datasheet; Source: RLC_UN1Q.SchLib; ComponentLink2Description: 2_Product page; Operating temperature range: -55 ... +155°C; RoHS: RoHS3 with ex; Manufacturer Part Number: RC0402FR-070RL; Component Type: Resistor
footprint RES_0402_UN1Q (Chip Resistor, 1.0x0.5mm)
pins: 1, 2

## CMP-001-000440-12
designator R?, comment value NA  (hidden comment: RES_0402_NA)
Not Assembled - RES; Sort order: 999; HasBeenBuilt: TBD; System: RLC; ComponentLink4Description: 4_X-information; ComponentLink1Description: 1_Datasheet; Package: 0402; ComponentLink2Description: 2_Product page; Creation date: 20190101; Source: RLC_UN1Q.SchLib; ComponentLink3Description: 3_X-information; Component Type: Resistor
footprint RES_0402_UN1Q (Chip Resistor, 1.0x0.5mm)
pins: 1, 2

## CMP-001-000446-13
designator R?, comment value 10k  Manufacturer: Yageo Group  (hidden comment: RES_0201_10k)
RES; Part Number: RC0201FR-0710KL; Manufacturer: YAGEO; Power Rating: 1/20W; Sort order: 322; HasBeenBuilt: TBD; Tolerance: 1%; Alternative component: Allowed; System: RLC; Package: 0201; ClassName: SMALL; ComponentLink1Description: 1_Datasheet; ComponentLink2Description: 2_Product page; ComponentLink3Description: 3_X-information; ComponentLink4Description: 4_X-information; Creation date: 20190101; Source: RLC_UN1Q.SchLib; Manufacturer Part Number: RC0201FR-0710KL; Component Type: Resistor
footprint RES_0201_UN1Q (Chip Resistor, 0.6x0.3mm)
pins: 1, 2

## CMP-001-000449-12
designator R?, comment value 11k  (hidden comment: RES_0201_11k)
RES; Manufacturer: YAGEO; Part Number: RC0201FR-0711KL; Power Rating: 1/20W; Alternative component: Allowed; Tolerance: 1%; HasBeenBuilt: TBD; Sort order: 322; System: RLC; ClassName: SMALL; ComponentLink1Description: 1_Datasheet; Package: 0201; ComponentLink4Description: 4_X-information; Creation date: 20190101; ComponentLink2Description: 2_Product page; ComponentLink3Description: 3_X-information; Component Type: Resistor
footprint RES_0201_UN1Q (Chip Resistor, 0.6x0.3mm)
pins: 1, 2

## CMP-001-000450-13
designator R?, comment value 12k  Manufacturer: Yageo Group  (hidden comment: RES_0201_12k)
RES; Part Number: RC0201FR-0712KL; Manufacturer: YAGEO; Power Rating: 1/20W; Sort order: 322; HasBeenBuilt: TBD; Alternative component: Allowed; Tolerance: 1%; System: RLC; Package: 0201; ClassName: SMALL; ComponentLink1Description: 1_Datasheet; ComponentLink2Description: 2_Product page; ComponentLink3Description: 3_X-information; ComponentLink4Description: 4_X-information; Creation date: 20190101; Source: RLC_UN1Q.SchLib; Manufacturer Part Number: RC0201FR-0712KL; Component Type: Resistor
footprint RES_0201_UN1Q (Chip Resistor, 0.6x0.3mm)
pins: 1, 2

## CMP-001-000458-12
designator R?, comment value 20k  (hidden comment: RES_0201_20k)
RES; Manufacturer: YAGEO; Part Number: RC0201FR-0720KL; Tolerance: 1%; System: RLC; Alternative component: Allowed; Sort order: 322; Power Rating: 1/20W; HasBeenBuilt: TBD; ClassName: SMALL; ComponentLink3Description: 3_X-information; ComponentLink4Description: 4_X-information; ComponentLink2Description: 2_Product page; Creation date: 20230510; Package: 0201; ComponentLink1Description: 1_Datasheet; Component Type: Resistor
footprint RES_0201_UN1Q (Chip Resistor, 0.6x0.3mm)
pins: 1, 2

## CMP-001-000460-12
designator R?, comment value 22R  Manufacturer: Yageo Group  (hidden comment: RES_0201_22R)
RES; Part Number: RC0201FR-0722RL; Manufacturer: YAGEO; Alternative component: Allowed; Tolerance: 1%; Sort order: 322; Power Rating: 1/20W; HasBeenBuilt: TBD; System: RLC; ClassName: SMALL; ComponentLink4Description: 4_X-information; ComponentLink1Description: 1_Datasheet; ComponentLink3Description: 3_X-information; Creation date: 20190101; ComponentLink2Description: 2_Product page; Package: 0201; Manufacturer Part Number: RC0201FR-0722RL; Component Type: Resistor
footprint RES_0201_UN1Q (Chip Resistor, 0.6x0.3mm)
pins: 1, 2

## CMP-001-000466-13
designator R?, comment value 33k  (hidden comment: RES_0201_33k)
RES; Part Number: RC0201FR-0733KL; Manufacturer: YAGEO; Power Rating: 1/20W; Sort order: 322; HasBeenBuilt: TBD; Tolerance: 1%; Alternative component: Allowed; System: RLC; Package: 0201; ComponentLink1Description: 1_Datasheet; ComponentLink2Description: 2_Product page; ComponentLink3Description: 3_X-information; ComponentLink4Description: 4_X-information; Creation date: 20190101; ClassName: SMALL; Source: RLC_UN1Q.SchLib; Component Type: Resistor
footprint RES_0201_UN1Q (Chip Resistor, 0.6x0.3mm)
pins: 1, 2

## CMP-001-000475-13
designator R?, comment value 4k7  Manufacturer: Yageo Group  (hidden comment: RES_0201_4k7)
RES; Part Number: RC0201FR-074K7L; Manufacturer: YAGEO; Power Rating: 1/20W; Sort order: 322; HasBeenBuilt: TBD; Alternative component: Allowed; Tolerance: 1%; System: RLC; Package: 0201; ClassName: SMALL; ComponentLink1Description: 1_Datasheet; ComponentLink2Description: 2_Product page; ComponentLink3Description: 3_X-information; ComponentLink4Description: 4_X-information; Creation date: 20190101; Source: RLC_UN1Q.SchLib; Manufacturer Part Number: RC0201FR-074K7L; Component Type: Resistor
footprint RES_0201_UN1Q (Chip Resistor, 0.6x0.3mm)
pins: 1, 2

## CMP-001-000488-13
designator R?, comment value 10R  Manufacturer: Yageo Group  (hidden comment: RES_0402_10R)
RES; Manufacturer: Yageo; Part Number: RC0402FR-7D10RL; Power Rating: 1/16W; HasBeenBuilt: Yes; Tolerance: 1%; Alternative component: Allowed; Sort order: 324; System: RLC; Package: 0402; ComponentLink4Description: 4_X-information; ECCN: EAR99; ComponentLink3Description: 3_X-information; Creation date: 20190101; ComponentLink1Description: 1_Datasheet; Source: RLC_UN1Q.SchLib; ComponentLink2Description: 2_Product page; Operating temperature range: -55 ... +155°C; RoHS: RoHS3 with ex; Manufacturer Part Number: RC0402FR-7D10RL; Component Type: Resistor
footprint RES_0402_UN1Q (Chip Resistor, 1.0x0.5mm)
pins: 1, 2

## CMP-001-000526-11
designator R?, comment value 100k  Manufacturer: Yageo Group  (hidden comment: RES_0201_100k)
RES; Part Number: RC0201FR-07100KL; Manufacturer: YAGEO; Tolerance: 1%; Power Rating: 1/20W; Sort order: 322; HasBeenBuilt: TBD; Alternative component: Allowed; System: RLC; Package: 0201; ClassName: SMALL; ComponentLink1Description: 1_Datasheet; ComponentLink2Description: 2_Product page; ComponentLink3Description: 3_X-information; ComponentLink4Description: 4_X-information; Creation date: 20190101; Source: RLC_UN1Q.SchLib; Manufacturer Part Number: RC0201FR-07100KL; Component Type: Resistor
footprint RES_0201_UN1Q (Chip Resistor, 0.6x0.3mm)
pins: 1, 2

## CMP-001-000527-13
designator R?, comment value 100R  Manufacturer: Yageo Group  (hidden comment: RES_0201_100R)
RES; Part Number: RC0201FR-07100RL; Manufacturer: YAGEO; Tolerance: 1%; Power Rating: 1/20W; Sort order: 322; HasBeenBuilt: TBD; Alternative component: Allowed; System: RLC; Package: 0201; ClassName: SMALL; ComponentLink1Description: 1_Datasheet; ComponentLink2Description: 2_Product page; ComponentLink3Description: 3_X-information; ComponentLink4Description: 4_X-information; Creation date: 20190101; Source: RLC_UN1Q.SchLib; Manufacturer Part Number: RC0201FR-07100RL; Component Type: Resistor
footprint RES_0201_UN1Q (Chip Resistor, 0.6x0.3mm)
pins: 1, 2

## CMP-001-000529-12
designator R?, comment value 110k  (hidden comment: RES_0201_110k)
RES; Part Number: RC0201FR-07110KL; Manufacturer: Yageo; Tolerance: 1%; Power Rating: 1/20W; Sort order: 322; HasBeenBuilt: TBD; Alternative component: Allowed; System: RLC; Package: 0201; ComponentLink1Description: 1_Datasheet; ComponentLink2Description: 2_Product page; ComponentLink3Description: 3_X-information; ComponentLink4Description: 4_X-information; Creation date: 20190101; ClassName: SMALL; Source: RLC_UN1Q.SchLib; Component Type: Resistor
footprint RES_0201_UN1Q (Chip Resistor, 0.6x0.3mm)
pins: 1, 2

## CMP-001-000549-13
designator R?, comment value 200R  Manufacturer: Vishay  (hidden comment: RES_0201_200R)
RES; Part Number: CRCW0201200RFNED; Manufacturer: Vishay Dale; Tolerance: 1%; Power Rating: 1/20W; Sort order: 322; HasBeenBuilt: TBD; Alternative component: Allowed; System: RLC; Package: 0201; ClassName: SMALL; ComponentLink1Description: 1_Datasheet; ComponentLink2Description: 2_Product page; ComponentLink3Description: 3_X-information; ComponentLink4Description: 4_X-information; Creation date: 20190101; Source: RLC_UN1Q.SchLib; Manufacturer Part Number: CRCW0201200RFNED; Component Type: Resistor
footprint RES_0201_UN1Q (Chip Resistor, 0.6x0.3mm)
pins: 1, 2

## CMP-001-000551-12
designator R?, comment value 220R  Manufacturer: Yageo Group  (hidden comment: RES_0201_220R)
RES; Part Number: RC0201FR-07220RL; Manufacturer: YAGEO; HasBeenBuilt: TBD; Sort order: 322; System: RLC; Tolerance: 1%; Alternative component: Allowed; Power Rating: 1/20W; ClassName: SMALL; ComponentLink3Description: 3_X-information; ComponentLink4Description: 4_X-information; ComponentLink2Description: 2_Product page; Package: 0201; ComponentLink1Description: 1_Datasheet; Creation date: 20251024; Manufacturer Part Number: RC0201FR-07220RL; Component Type: Resistor
footprint RES_0201_UN1Q (Chip Resistor, 0.6x0.3mm)
pins: 1, 2

## CMP-001-000554-14
designator R?, comment value 240R  Manufacturer: Yageo Group  (hidden comment: RES_0201_240R)
RES; Part Number: RC0201JR-07240RL; Manufacturer: Yageo; Manufacturer Part Number: RC0201FR-07240RL; Tolerance: 1%; Power Rating: 1/20W; Sort order: 322; HasBeenBuilt: TBD; Alternative component: Allowed; System: RLC; Package: 0201; ClassName: SMALL; ComponentLink1Description: 1_Datasheet; ComponentLink2Description: 2_Product page; ComponentLink3Description: 3_X-information; ComponentLink4Description: 4_X-information; Creation date: 20190101; ECCN: EAR99; Source: RLC_UN1Q.SchLib; RoHS: RoHS 3; Component Type: Resistor
footprint RES_0201_UN1Q (Chip Resistor, 0.6x0.3mm)
pins: 1, 2

## CMP-001-000561-13
designator R?, comment value 2k49  (hidden comment: RES_0201_2k49)
RES; Part Number: RMCF0201FT2K49; Manufacturer: YAGEO; Power Rating: 1/20W; Sort order: 322; HasBeenBuilt: TBD; Alternative component: Allowed; Tolerance: 1%; System: RLC; Package: 0201; ClassName: SMALL; ComponentLink1Description: 1_Datasheet; ComponentLink2Description: 2_Product page; ComponentLink3Description: 3_X-information; ComponentLink4Description: 4_X-information; Creation date: 20230510; Source: RLC_UN1Q.SchLib; Component Type: Resistor
footprint RES_0201_UN1Q (Chip Resistor, 0.6x0.3mm)
pins: 1, 2

## CMP-001-000564-11
designator R?, comment value 330k  Manufacturer: Yageo Group  (hidden comment: RES_0201_330k)
RES; Manufacturer: YAGEO; Part Number: RC0201FR-07330KL; Power Rating: 1/20W; System: RLC; HasBeenBuilt: TBD; Tolerance: 1%; Alternative component: Allowed; Sort order: 322; ComponentLink2Description: 2_Product page; ClassName: SMALL; ComponentLink1Description: 1_Datasheet; Package: 0201; ComponentLink3Description: 3_X-information; ComponentLink4Description: 4_X-information; Creation date: 20230302; Manufacturer Part Number: RC0201FR-07330KL; Component Type: Resistor
footprint RES_0201_UN1Q (Chip Resistor, 0.6x0.3mm)
pins: 1, 2

## CMP-001-000572-11
designator R?, comment value 470R  (hidden comment: RES_0201_470R)
RES; Manufacturer: Yageo; Part Number: RC0201FR-07470RL; HasBeenBuilt: TBD; Sort order: 322; Alternative component: Allowed; Tolerance: 1%; Power Rating: 1/20W; System: RLC; ComponentLink3Description: 3_X-information; Creation date: 03012023; Source: RLC_UN1Q.SchLib; ComponentLink1Description: 1_Datasheet; Package: 0201; ComponentLink2Description: 2_Product page; ComponentLink4Description: 4_X-information; ClassName: SMALL; Component Type: Resistor
footprint RES_0201_UN1Q (Chip Resistor, 0.6x0.3mm)
pins: 1, 2

## CMP-001-000574-12
designator R?, comment value 49R9  Manufacturer: Yageo Group  (hidden comment: RES_0201_49R9)
RES; Part Number: RC0201FR-0749R9L; Manufacturer: YAGEO; Tolerance: 1%; Sort order: 322; HasBeenBuilt: TBD; Alternative component: Allowed; Power Rating: 1/20W; System: RLC; Package: 0201; ClassName: SMALL; ComponentLink1Description: 1_Datasheet; ComponentLink2Description: 2_Product page; Creation date: 20190101; ComponentLink3Description: 3_X-information; ComponentLink4Description: 4_X-information; Source: RLC_UN1Q.SchLib; Manufacturer Part Number: RC0201FR-0749R9L; Component Type: Resistor
footprint RES_0201_UN1Q (Chip Resistor, 0.6x0.3mm)
pins: 1, 2

## CMP-001-000576-12
designator R?, comment value 510k  Manufacturer: Panasonic  (hidden comment: RES_0201_510k)
RES; Part Number: ERJ-1GNF5103C; Manufacturer: Panasonic Electronic Components; Sort order: 322; HasBeenBuilt: TBD; Alternative component: Allowed; System: RLC; Power Rating: 1/20W; Tolerance: 1%; Package: 0201; ComponentLink1Description: 1_Datasheet; ComponentLink2Description: 2_Product page; ComponentLink3Description: 3_X-information; ComponentLink4Description: 4_X-information; Creation date: 20211123; Source: RLC_UN1Q.SchLib; ClassName: SMALL; Manufacturer Part Number: ERJ-1GNF5103C; Component Type: Resistor
footprint RES_0201_UN1Q (Chip Resistor, 0.6x0.3mm)
pins: 1, 2

## CMP-001-000591-12
designator R?, comment value 910K  Manufacturer: Yageo Group  (hidden comment: RES_0201_910k)
RES; Part Number: RC0201FR-07910KL; Manufacturer: YAGEO; Tolerance: 1%; Power Rating: 1/20W; Sort order: 322; HasBeenBuilt: TBD; Alternative component: Allowed; System: RLC; Package: 0201; ComponentLink1Description: 1_Datasheet; ComponentLink2Description: 2_Product page; ComponentLink3Description: 3_X-information; ComponentLink4Description: 4_X-information; Creation date: 20211116; ClassName: SMALL; Manufacturer Part Number: RC0201FR-07910KL; Component Type: Resistor
footprint RES_0201_UN1Q (Chip Resistor, 0.6x0.3mm)
pins: 1, 2

## CMP-001-000677-12
designator R?, comment value 5mOhm  Manufacturer: Susumu  (hidden comment: RES_0805_0R005_KRL1220E)
RES 0805, 5mOhm , current measurement resistor; Part Number: KRL1220E-M-R005-G-T5; Tolerance: 2%; Sort order: 328; HasBeenBuilt: Sleeve_01,CCB30_1; Alternative component: Allowed; Power Rating: 1/2W; System: RLC; Package: 0805; Operating temperature range: -55C ... +155C; Dimensions WxLxH: 2.2 x 1.45 x 0.7 mm; ComponentLink1Description: 1_Datasheet; ComponentLink1URL: https://www.mouser.fi/datasheet/2/392/n_catalog_partition09_en-1620720.pdf; ComponentLink2Description: 2_Product page; ComponentLink3Description: 3_X-information; ComponentLink4Description: 4_X-information; Creation date: 20210928; Source: RLC_UN1Q.SchLib; ECCN: EAR99; Manufacturer Part Number: KRL1220E-M-R005-G-T5; Component Type: Resistor
footprint RES_0805_UN1Q (Resistor 0805)
pins: 1, 2

## CMP-001-000685-10
designator Y?, comment value 32MHz  Manufacturer: ECS  Manufacturer: ECS International  (hidden comment: XTAL_32M_2016_8pF)
Crystal 32MHz 8pF stab 10% tol 10%; Part Number: ECS-320-8-37B-CKY; Manufacturer Part Number: ECS-320-8-37B-CKY-TR; Tolerance: +/-10ppm; Sort order: 455; HasBeenBuilt: False; System: Discrete; Operating temperature range: -30 ... +85C; Dimensions WxLxH: 2 x 1.6mm x 0.65mm; Package: 2016; ComponentLink1Description: 1_Datasheet; ComponentLink1URL: https://ecsxtal.com/store/pdf/ECX-1637B.pdf; ComponentLink2Description: 2_Product_page; ComponentLink2URL: https://ecsxtal.com/ecx-1637b; ComponentLink3Description: 3_X-information; ComponentLink4Description: 4_X-information; Creation date: 20210913; Source: Discrete_UN1Q.SchLib; Manufacturer Part Number: ECS-320-8-37B-CKY; Component Type: Crystal & Oscillator
footprint XTAL_2016_UN1Q (Murata XTAL 2.0 x 1.6mm)
pins: 1, 2 GND (power) hidden to GND, 3, 4 GND (power) hidden to GND

## CMP-001-000696-9
designator Y?, comment value 32.768 kHz  Manufacturer: Micro Crystal  (hidden comment: XTAL_CM8V-T1A-32_768KHZ-7PF-20PPM-TA-QC)
SMT Quartz Crystal; Part Number: CM8V-T1A-32.768KHZ-7PF-20PPM-TA-QC; Sort order: 455; HasBeenBuilt: SleeveIO_01; System: Discrete; Operating temperature range: -40 .... +85 °C; Dimensions WxLxH: 1.2x2.0x0.6mm; Package: 2-SMD; ComponentLink1Description: 1_Datasheet; ComponentLink1URL: https://www.microcrystal.com/fileadmin/Media/Products/32kHz/Datasheet/CM8V-T1A.pdf; ComponentLink2Description: 2_Product page; ComponentLink2URL: https://www.microcrystal.com/en/products/khz-quartz-crystals/cm8v-t1a/; ComponentLink3Description: 3_X-information; ComponentLink4Description: 4_X-information; Creation date: 20210913; ClassName: BIG; ECCN: EAR99; Source: Discrete_UN1Q.SchLib; RoHS: RoHS3; Manufacturer Part Number: CM8V-T1A-32.768KHZ-7PF-20PPM-TA-QC; Component Type: Crystal & Oscillator
footprint CM8V32768TA020125_MC (2.0 x 1.2 x 0.60 mm)
pins: 1, 2

## CMP-001-000697-8
designator QZ?, comment value 32.768 kHz  Manufacturer: Micro Crystal  (hidden comment: XTAL_CM8V-T1A-32_768KHZ-9PF-20PPM-TA-QC)
SMT Quartz Crystal; Part Number: CM8V-T1A-32.768KHZ-9PF-20PPM-TA-QC; HasBeenBuilt: SleeveIO_01; Sort order: 455; System: Discrete; ClassName: BIG; ComponentLink1Description: 1_Datasheet; ComponentLink1URL: https://www.microcrystal.com/fileadmin/Media/Products/32kHz/Datasheet/CM8V-T1A.pdf; ComponentLink2Description: 2_Product page; ComponentLink2URL: https://www.microcrystal.com/en/products/khz-quartz-crystals/cm8v-t1a/; ComponentLink3Description: 3_X-information; ComponentLink4Description: 4_X-information; Creation date: 20210913; Dimensions WxLxH: 1.2x2.0x0.6mm; Operating temperature range: -40 .... +85 °C; Package: 2-SMD; Source: Discrete_UN1Q.SchLib; Manufacturer Part Number: CM8V-T1A-32.768KHZ-9PF-20PPM-TA-QC; Component Type: Crystal & Oscillator
footprint CM8V32768TA020125_MC (2.0 x 1.2 x 0.60 mm)
pins: 1, 2

## CMP-001-000738-12
designator R?, comment value 30R@100MHz  Manufacturer: Murata  (hidden comment: FERRITE_0402_BLM15KD)
FERRITE; Part Number: BLM15KD300SN1; Manufacturer Part Number: BLM15KD300SN1D; Sort order: 364; HasBeenBuilt: Saluki2; System: Discrete; Current: 3.1A; Package: 0402; Operating temperature range: -55 ... +125C; Dimensions WxLxH: 0.55mm; ComponentLink1Description: 1_Datasheet; ComponentLink1URL: https://www.murata.com/en-us/products/productdetail.aspx?cate=luNoiseSupprFilteChipFerriBead&partno=BLM15KD300SN1%23; ComponentLink2Description: 2_Product page; ComponentLink3Description: 3_X-information; ComponentLink4Description: 4_X-information; Creation date: 20200304; Source: Discrete_UN1Q.SchLib; ECCN: EAR99; RoHS: RoHS3; Component Type: Ferrite
footprint FERR_BLM15KD (Chip Resistor, Body 1.0x0.5mm, IPC High Density)
pins: 1, 2

## CMP-001-000740-8
designator L?, comment value 26R @ 100MHz  Current: 6A  Manufacturer: Murata  (hidden comment: FERRITE_0603_BLM18_6A)
FERRITE; Part Number: BLM18KG260TN1; Manufacturer Part Number: BLM18KG260TN1D; Sort order: 366; System: Discrete; Package: 0603; Operating temperature range: -55 ... +125C; Dimensions WxLxH: 0.8mm; ComponentLink1Description: 1_Datasheet; ComponentLink1URL: https://www.murata.com/products/productdata/8796738650142/ENFA0003.pdf; ComponentLink2Description: 2_Product page; ComponentLink3Description: 3_X-information; ComponentLink4Description: 4_X-information; Creation date: 20200304; Component Type: Ferrite
footprint IND_0603_UN1Q (Chip Inductor, 1.6x0.8mm)
pins: 1, 2